# Altium integrated library Shrouded_Header_2x5_127.IntLib: 1 symbol
Pins are listed as number, name and electrical type; pins without a type are passive.

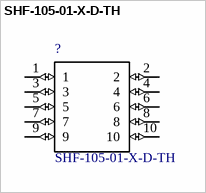
[diagram p0: symbol SHF-105-01-X-D-TH]

## SHF-105-01-X-D-TH
designator ?
Conn Shrouded Header HDR 10 POS 1.27mm Solder ST Thru-Hole; MF: Samtec; MP: SHF-105-01-L-D-TH; Price: 1.82 USD; SnapEDA_Link: https://www.snapeda.com/parts/SHF-105-01-L-D-TH/Samtec%20Inc/view-part/?ref=snap; Availability: Good; Package: None; Value: *
footprint SHF-105-01-X-D-TH
pins: 1 (io), 2 (io), 3 (io), 4 (io), 5 (io), 6 (io), 7 (io), 8 (io), 9 (io), 10 (io)